# EAGLE library part D-FF7-EN (library digital)
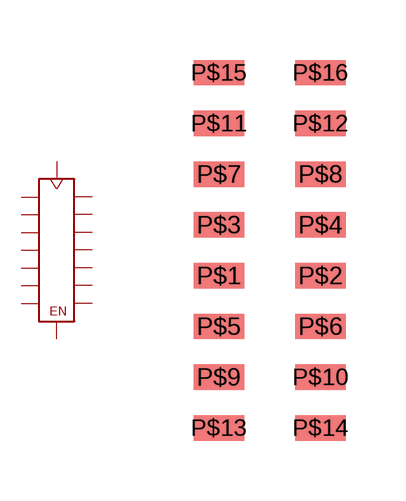
[diagram p5: symbol with the pads of 16PIN; footprint 16PIN]

Designator prefix -

## D-FF7-EN  [16PIN]
P$1  CLK
P$2  D1
P$3  D2
P$4  D3
P$5  D4
P$6  D5
P$7  D6
P$8  D7
P$9  EN
P$10  Q1
P$11  Q2
P$12  Q3
P$13  Q4
P$14  Q5
P$15  Q6
P$16  Q7

## Footprint 16PIN (pad centres in mm)
smd 1.27 x 0.635: P$1 -1.27,0; P$2 1.27,0; P$3 -1.27,1.27; P$4 1.27,1.27; P$5 -1.27,-1.27; P$6 1.27,-1.27; P$7 -1.27,2.54; P$8 1.27,2.54; P$9 -1.27,-2.54; P$10 1.27,-2.54; P$11 -1.27,3.81; P$12 1.27,3.81; P$13 -1.27,-3.81; P$14 1.27,-3.81; P$15 -1.27,5.08; P$16 1.27,5.08